# EAGLE library part 10POL_ABGEWINKELT_M (library Honda2-0)
Honda Steckverbinder 10Pol abgewinkelt m FKP xML
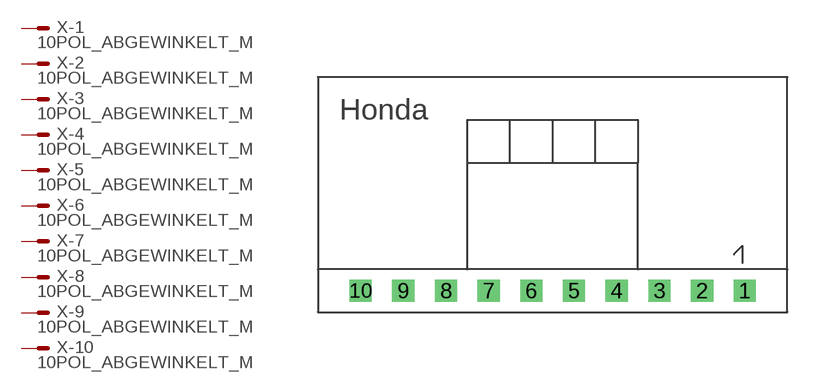
[diagram p1: symbol with the pads of 10POL_ABGEWINKELT; footprint 10POL_ABGEWINKELT]

Designator prefix X; gates -1=M -2=M -3=M -4=M -5=M -6=M -7=M -8=M -9=M -10=M

## 10POL_ABGEWINKELT_M'  [10POL_ABGEWINKELT]
1  -1:S  pas
2  -2:S  pas
3  -3:S  pas
4  -4:S  pas
5  -5:S  pas
6  -6:S  pas
7  -7:S  pas
8  -8:S  pas
9  -9:S  pas
10  -10:S  pas

## Footprint 10POL_ABGEWINKELT (pad centres in mm)
Honda Steckverbinder 10 Pol abgewinkelt m FKP xML
drill 0.813 square: 1 25.4,1.27; 2 22.86,1.27; 3 20.32,1.27; 4 17.78,1.27; 5 15.24,1.27; 6 12.7,1.27; 7 10.16,1.27; 8 7.62,1.27; 9 5.08,1.27; 10 2.54,1.27